# EAGLE library part MC34063 (library power_convertors)
MC34063A DC?to?DC converters. Step?Down and Step?Up and Voltage?Inverting > Operation from 3.0 V to 40 V Input > Low Standby Current > Current Limiting > Output Switch Current to 1.5 A > Output Voltage Adjustable > Frequency Operation to 100 kHz > Precision 2% Reference
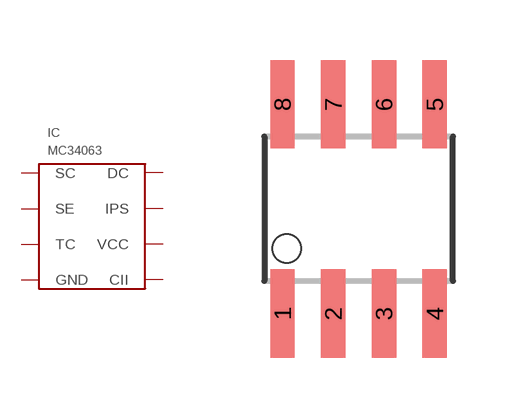
[diagram p1: symbol with the pads of SO08; footprint SO08]

Designator prefix IC

## MC34063  [SO08]
1  SC
2  SE
3  TC
4  GND
5  CII
6  VCC
7  IPS
8  DC

## Footprint SO08 (pad centres in mm)
Small Outline Package
smd 0.61 x 2.21: 1 -1.905,-2.616; 2 -0.635,-2.616; 3 0.635,-2.616; 4 1.905,-2.616; 5 1.905,2.616; 6 0.635,2.616; 7 -0.635,2.616; 8 -1.905,2.616